# Altium schematic symbol library JS202011JAQN DPDT Switch.SchLib: 1 symbol
Pins are listed as number, name and electrical type; pins without a type are passive.

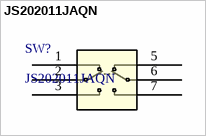
[diagram p0: symbol JS202011JAQN]

## JS202011JAQN
designator SW?
No Description Available; Mfr_Name: C&K; Copyright: Copyright (C) 2022 Ultra Librarian. All rights reserved.; Manufacturer_Part_Number: JS202011JAQN; Digi-Key_Part_Number_1: CKN10722TR-ND; Digi-Key_Part_Number_2: CKN10722CT-ND; Digi-Key_Part_Number_3: CKN10722DKR-ND; RefDes: RefDes; Type: DEV
footprint JS202011JAQN_CNK
pins: 1, 2, 3, 5, 6, 7